# Altium schematic symbol library SCH - ARM CORTEX - NXP Kinetis KL03 QFN24.SchLib: 1 symbol
Pins are listed as number, name and electrical type; pins without a type are passive.

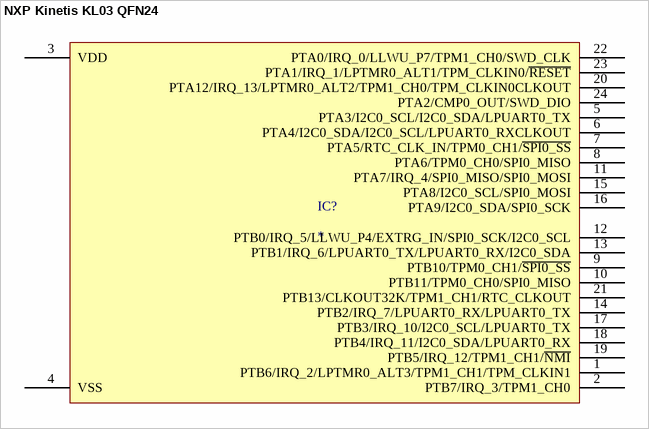
[diagram p0: symbol NXP Kinetis KL03 QFN24]

## NXP Kinetis KL03 QFN24
designator IC?
pins: 1 PTB6/IRQ_2/LPTMR0_ALT3/TPM1_CH1/TPM_CLKIN1, 2 PTB7/IRQ_3/TPM1_CH0, 3 VDD, 4 VSS, 5 PTA3/I2C0_SCL/I2C0_SDA/LPUART0_TX, 6 PTA4/I2C0_SDA/I2C0_SCL/LPUART0_RXCLKOUT, 7 PTA5/RTC_CLK_IN/TPM0_CH1/~{SPI0_SS}, 8 PTA6/TPM0_CH0/SPI0_MISO, 9 PTB10/TPM0_CH1/~{SPI0_SS}, 10 PTB11/TPM0_CH0/SPI0_MISO, 11 PTA7/IRQ_4/SPI0_MISO/SPI0_MOSI, 12 PTB0/IRQ_5/LLWU_P4/EXTRG_IN/SPI0_SCK/I2C0_SCL, 13 PTB1/IRQ_6/LPUART0_TX/LPUART0_RX/I2C0_SDA, 14 PTB2/IRQ_7/LPUART0_RX/LPUART0_TX, 15 PTA8/I2C0_SCL/SPI0_MOSI, 16 PTA9/I2C0_SDA/SPI0_SCK, 17 PTB3/IRQ_10/I2C0_SCL/LPUART0_TX, 18 PTB4/IRQ_11/I2C0_SDA/LPUART0_RX, 19 PTB5/IRQ_12/TPM1_CH1/~{NMI}, 20 PTA12/IRQ_13/LPTMR0_ALT2/TPM1_CH0/TPM_CLKIN0CLKOUT, 21 PTB13/CLKOUT32K/TPM1_CH1/RTC_CLKOUT, 22 PTA0/IRQ_0/LLWU_P7/TPM1_CH0/SWD_CLK, 23 PTA1/IRQ_1/LPTMR0_ALT1/TPM_CLKIN0/~{RESET}, 24 PTA2/CMP0_OUT/SWD_DIO